# Altium schematic symbol library SI5332BD08940-GM1.SchLib: 1 symbol
Pins are listed as number, name and electrical type; pins without a type are passive.

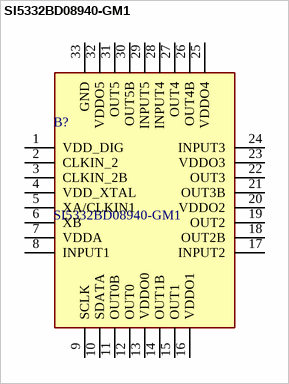
[diagram p0: symbol SI5332BD08940-GM1]

## SI5332BD08940-GM1
designator B?
Clock Generators & Support Products Low jitter, 6-output, any-frequency (< 200 MHz), any output clock generator (INT+FRAC); Manufacturer_Name: Skyworks; Geometry.Height: 0.9mm; Manufacturer_Part_Number: SI5332BD08940-GM1; Mouser Part Number: *; Mouser Price/Stock: *; Arrow Part Number: *; Arrow Price/Stock: *; Datasheet Link: https://www.mouser.in/datasheet/2/472/si5332_datasheet-2507478.pdf
footprint QFN50P500X500X90-33N-D
pins: 1 VDD_DIG, 2 CLKIN_2, 3 CLKIN_2B, 4 VDD_XTAL, 5 XA/CLKIN1, 6 XB, 7 VDDA, 8 INPUT1, 9 SCLK, 10 SDATA, 11 OUT0B, 12 OUT0, 13 VDDO0, 14 OUT1B, 15 OUT1, 16 VDDO1, 17 INPUT2, 18 OUT2B, 19 OUT2, 20 VDDO2, 21 OUT3B, 22 OUT3, 23 VDDO3, 24 INPUT3, 25 VDDO4, 26 OUT4B, 27 OUT4, 28 INPUT4, 29 INPUT5, 30 OUT5B, 31 OUT5, 32 VDDO5, 33 GND